# Altium footprint library PcbLib1.PcbLib: 11 footprints
Each footprint in its own frame and in the unit in brackets; x right, y up, seen from the top. Pads: shape width x height; smd on the part's side, far side on the other; paste and mask are expansions set on the pad; w line width, h text height; cw(c..) or ccw(c..) is an arc to the next point about the centre after c.
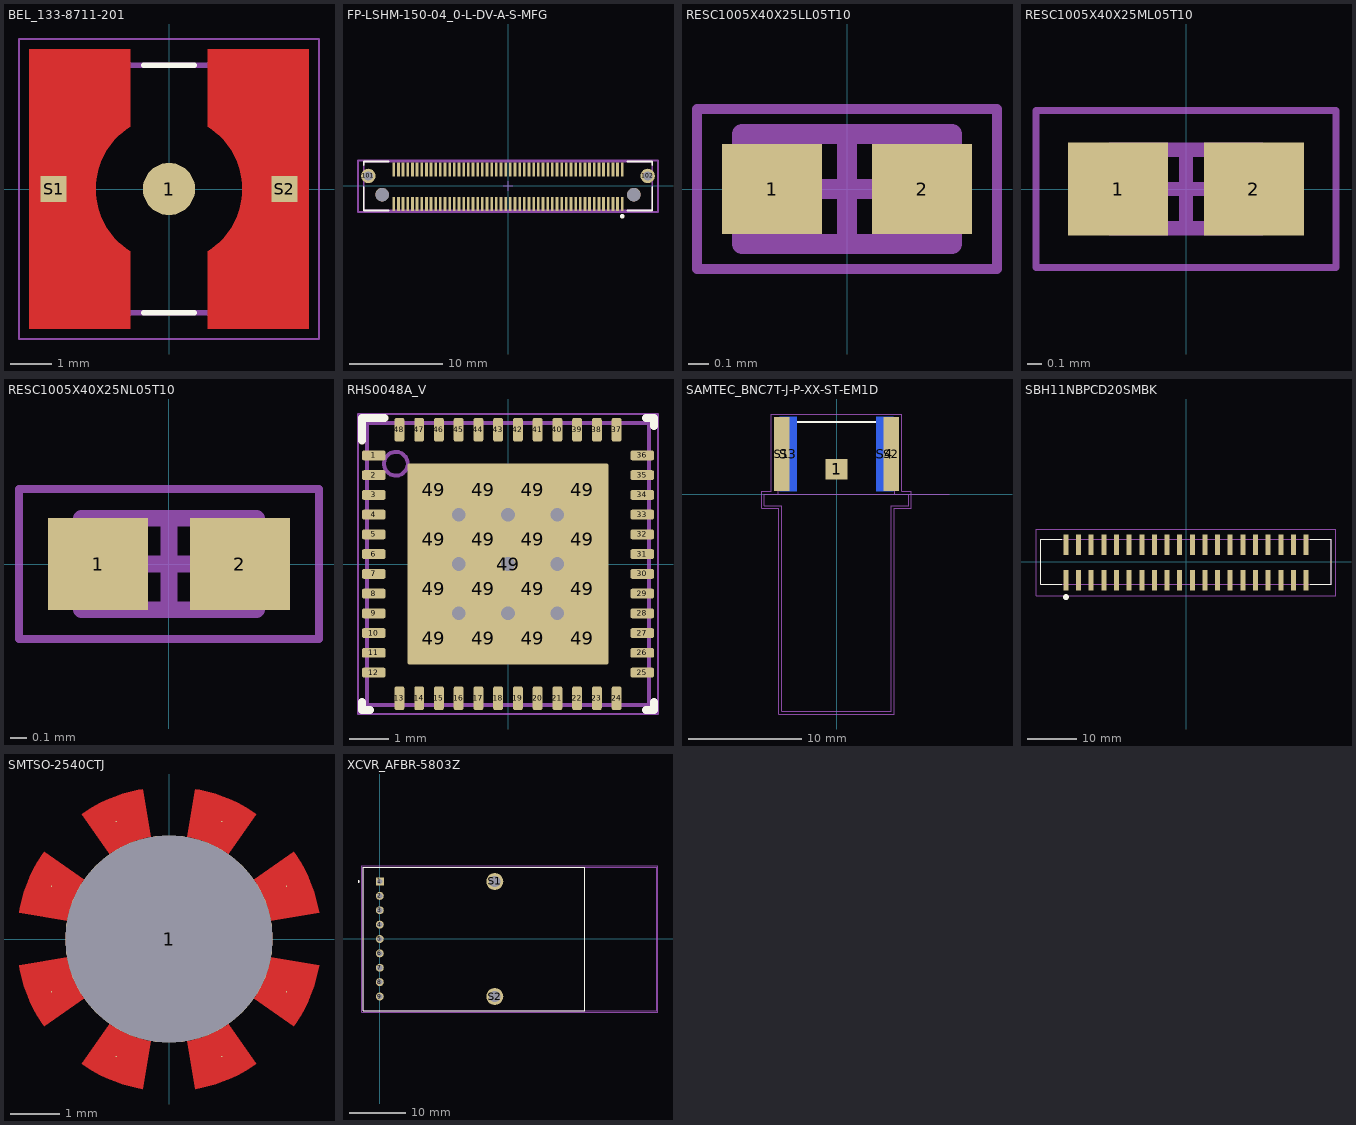
[diagram p0: the footprints below, top view; thin cyan lines are the x and y axes]

## BEL_133-8711-201 [mil]
pads (3):
  round 50 smd: 1(0,0)
  rect 25x25 smd paste-39.37 mask+0: S1(-110,0) S2(110,0)
Top Layer:
  region: -37,59.4 -41.06,56.68 -44.78,53.79 -48.31,50.65 -51.62,47.28 -54.69,43.7 -57.51,39.92 -60.07,35.95 -62.36,31.82 -64.36,27.55 -66.07,23.15 -67.48,18.65 -68.59,14.06 -69.38,9.41 -69.86,4.72 -70.02,0 -69.86,-4.72 -69.38,-9.41 -68.59,-14.06 -67.48,-18.65 -66.07,-23.15 -64.36,-27.55 -62.36,-31.82 -60.07,-35.95 -57.51,-39.92 -54.69,-43.7 -51.62,-47.28 -48.31,-50.65 -44.78,-53.79 -41.06,-56.68 -37,-59.4 -37,-133 -133,-133 -133,133 -37,133
  region: 133,-133 37,-133 37,-59.4 41.06,-56.68 44.78,-53.79 48.31,-50.65 51.62,-47.28 54.69,-43.7 57.51,-39.92 60.07,-35.95 62.36,-31.82 64.36,-27.55 66.07,-23.15 67.48,-18.65 68.59,-14.06 69.38,-9.41 69.86,-4.72 70.02,0 69.86,4.72 69.38,9.41 68.59,14.06 67.48,18.65 66.07,23.15 64.36,27.55 62.36,31.82 60.07,35.95 57.51,39.92 54.69,43.7 51.62,47.28 48.31,50.65 44.78,53.79 41.06,56.68 37,59.4 37,133 133,133
Top Overlay:
  lines w5: -24,-118 24,-118 ; -24,118 24,118
Top Paste:
  region: -59.5,59.5 -120.5,59.5 -120.5,120.5 -59.5,120.5
  region: 120.5,59.5 59.5,59.5 59.5,120.5 120.5,120.5
  region: 120.5,-120.5 59.5,-120.5 59.5,-59.5 120.5,-59.5
  region: -59.5,-120.5 -120.5,-120.5 -120.5,-59.5 -59.5,-59.5
Top Solder:
  region: -33,57.25 -36.99,54.76 -40.72,52.05 -44.25,49.09 -47.57,45.88 -50.65,42.46 -53.49,38.82 -56.07,35 -58.38,31.01 -60.4,26.87 -62.12,22.59 -63.55,18.21 -64.66,13.73 -65.47,9.19 -65.95,4.61 -66.11,0 -65.95,-4.61 -65.47,-9.19 -64.66,-13.73 -63.55,-18.21 -62.12,-22.59 -60.4,-26.87 -58.38,-31.01 -56.07,-35 -53.49,-38.82 -50.65,-42.46 -47.57,-45.88 -44.25,-49.09 -40.72,-52.05 -36.99,-54.76 -33,-57.25 -33.06,-136.94 -136.94,-136.94 -136.94,136.94 -33.06,136.94
  region: 136.94,-136.94 33.06,-136.94 33,-57.25 36.99,-54.76 40.72,-52.05 44.25,-49.09 47.57,-45.88 50.65,-42.46 53.49,-38.82 56.07,-35 58.38,-31.01 60.4,-26.87 62.12,-22.59 63.55,-18.21 64.66,-13.73 65.47,-9.19 65.95,-4.61 66.11,0 65.95,4.61 65.47,9.19 64.66,13.73 63.55,18.21 62.12,22.59 60.4,26.87 58.38,31.01 56.07,35 53.49,38.82 50.65,42.46 47.57,45.88 44.25,49.09 40.72,52.05 36.99,54.76 33,57.25 33.06,136.94 136.94,136.94
Mechanical 13:
  lines w5: -118,-118 118,-118 118,118 -118,118 -118,-118
Mechanical 15:
  lines w1.97: -143,-143 143,-143 143,143 -143,143 -143,-143
3D body "step_temp.STEP": height 244.09, standoff 0, extent -118.11,-118.11 118.11,118.11

## FP-LSHM-150-04_0-L-DV-A-S-MFG [mm]
pads (104):
  rect 0.3x1.5 smd paste+0 mask+0: 1(12.25,-1.925) 2(12.25,1.775) 3(11.75,-1.925) 4(11.75,1.775) 5(11.25,-1.925) 6(11.25,1.775) 7(10.75,-1.925) 8(10.75,1.775) 9(10.25,-1.925) 10(10.25,1.775) 11(9.75,-1.925) 12(9.75,1.775) 13(9.25,-1.925) 14(9.25,1.775) 15(8.75,-1.925) 16(8.75,1.775) 17(8.25,-1.925) 18(8.25,1.775) 19(7.75,-1.925) 20(7.75,1.775) 21(7.25,-1.925) 22(7.25,1.775) 23(6.75,-1.925) 24(6.75,1.775) 25(6.25,-1.925) 26(6.25,1.775) 27(5.75,-1.925) 28(5.75,1.775) 29(5.25,-1.925) 30(5.25,1.775) 31(4.75,-1.925) 32(4.75,1.775) 33(4.25,-1.925) 34(4.25,1.775) 35(3.75,-1.925) 36(3.75,1.775) 37(3.25,-1.925) 38(3.25,1.775) 39(2.75,-1.925) 40(2.75,1.775) 41(2.25,-1.925) 42(2.25,1.775) 43(1.75,-1.925) 44(1.75,1.775) 45(1.25,-1.925) 46(1.25,1.775) 47(0.75,-1.925) 48(0.75,1.775) 49(0.25,-1.925) 50(0.25,1.775) 51(-0.25,-1.925) 52(-0.25,1.775) 53(-0.75,-1.925) 54(-0.75,1.775) 55(-1.25,-1.925) 56(-1.25,1.775) 57(-1.75,-1.925) 58(-1.75,1.775) 59(-2.25,-1.925) 60(-2.25,1.775) 61(-2.75,-1.925) 62(-2.75,1.775) 63(-3.25,-1.925) 64(-3.25,1.775) 65(-3.75,-1.925) 66(-3.75,1.775) 67(-4.25,-1.925) 68(-4.25,1.775) 69(-4.75,-1.925) 70(-4.75,1.775) 71(-5.25,-1.925) 72(-5.25,1.775) 73(-5.75,-1.925) 74(-5.75,1.775) 75(-6.25,-1.925) 76(-6.25,1.775) 77(-6.75,-1.925) 78(-6.75,1.775) 79(-7.25,-1.925) 80(-7.25,1.775) 81(-7.75,-1.925) 82(-7.75,1.775) 83(-8.25,-1.925) 84(-8.25,1.775) 85(-8.75,-1.925) 86(-8.75,1.775) 87(-9.25,-1.925) 88(-9.25,1.775) 89(-9.75,-1.925) 90(-9.75,1.775) 91(-10.25,-1.925) 92(-10.25,1.775) 93(-10.75,-1.925) 94(-10.75,1.775) 95(-11.25,-1.925) 96(-11.25,1.775) 97(-11.75,-1.925) 98(-11.75,1.775) 99(-12.25,-1.925) 100(-12.25,1.775)
  round 1.55 hole 1 paste-2539.97 mask+0: 101(-14.975,1.075) 102(14.975,1.075)
  round 1.45 hole 1.45 unplated paste-2539.97 mask+0: ""(-13.5,-0.925) ""(13.5,-0.925)
Top Overlay:
  circle w0.25: c12.25,-3.25 r0.125
  lines w0.2: -15.465,-0.075 -15.465,-2.63 -12.775,-2.63 ; -15.465,2.225 -15.465,2.63 -12.775,2.63 ; 12.775,-2.63 15.465,-2.63 15.465,-0.075 ; 12.775,2.63 15.465,2.63 15.465,2.225
Top Paste:
  circle w1: c14.975,1.075 r0.5
  circle w1: c-14.975,1.075 r0.5
Top 3D Body:
  lines w0.2: -15.465,-2.63 15.465,-2.63 15.465,2.63 -15.465,2.63 -15.465,-2.63
Top Courtyard:
  lines w0.2: -16.075,-2.775 16.075,-2.775 16.075,2.73 -16.075,2.73 -16.075,-2.775
Top Assembly:
  lines w0.2: -16.075,-2.775 16.075,-2.775 16.075,2.73 -16.075,2.73 -16.075,-2.775
  text ".Designator" at 0.482,1.112 h1
Top Component Center:
  lines w0.1: -0.5,0 0.5,0 ; 0,-0.5 0,0.5
3D body "Conn_Samtec_LSHM-150-04_0-L-DV-A-S-K-TR_eec.STEP": height 0.25, standoff 0, extent -16.075,-2.775 16.075,2.73

## PCBComponent_1 [mm]

## RESC1005X40X25LL05T10 [mm] "Chip Resistor, 2-Leads, Body 1.00x0.50mm, IPC High Density"
height 0.4
pads (2):
  rect 0.5x0.45 smd: 1(-0.375,0) 2(0.375,0)
Top 3D Body:
  lines w0.1: -0.525,-0.275 -0.525,0.275 0.525,0.275 0.525,-0.275 -0.525,-0.275
Top Courtyard:
  lines w0.05: -0.75,-0.4 -0.75,0.4 0.75,0.4 0.75,-0.4 -0.75,-0.4
  lines w0.1: -0.275,0 0.275,0 ; 0,-0.275 0,0.275
3D body: height 0.4, standoff 0, extent -0.275,-0.275 0.275,0.275
3D body: height 0.4, standoff 0, extent -0.525,-0.275 -0.275,0.275
3D body: height 0.4, standoff 0, extent 0.275,-0.275 0.525,0.275

## RESC1005X40X25ML05T10 [mm] "Chip Resistor, 2-Leads, Body 1.00x0.50mm, IPC Low Density"
height 0.4
pads (2):
  rect 0.7x0.65 smd: 1(-0.475,0) 2(0.475,0)
Top 3D Body:
  lines w0.1: -0.525,-0.275 -0.525,0.275 0.525,0.275 0.525,-0.275 -0.525,-0.275
Top Courtyard:
  lines w0.05: -1.05,-0.55 -1.05,0.55 1.05,0.55 1.05,-0.55 -1.05,-0.55
  lines w0.1: -0.275,0 0.275,0 ; 0,-0.275 0,0.275
3D body: height 0.4, standoff 0, extent -0.275,-0.275 0.275,0.275
3D body: height 0.4, standoff 0, extent -0.525,-0.275 -0.275,0.275
3D body: height 0.4, standoff 0, extent 0.275,-0.275 0.525,0.275

## RESC1005X40X25NL05T10 [mm] "Chip Resistor, 2-Leads, Body 1.00x0.50mm, IPC Medium Density"
height 0.4
pads (2):
  rect 0.6x0.55 smd: 1(-0.425,0) 2(0.425,0)
Top 3D Body:
  lines w0.1: -0.525,-0.275 -0.525,0.275 0.525,0.275 0.525,-0.275 -0.525,-0.275
Top Courtyard:
  lines w0.05: -0.9,-0.45 -0.9,0.45 0.9,0.45 0.9,-0.45 -0.9,-0.45
  lines w0.1: -0.275,0 0.275,0 ; 0,-0.275 0,0.275
3D body: height 0.4, standoff 0, extent -0.275,-0.275 0.275,0.275
3D body: height 0.4, standoff 0, extent -0.525,-0.275 -0.275,0.275
3D body: height 0.4, standoff 0, extent 0.275,-0.275 0.525,0.275

## RHS0048A_V [mm] "QFN, 48-Leads, Body 7x7mm, Pitch 0.5mm, TI Recommended"
height 0.8
pads (65):
  rrect40% 0.6x0.25 smd: 1(-3.4,2.75) 2(-3.4,2.25) 3(-3.4,1.75) 4(-3.4,1.25) 5(-3.4,0.75) 6(-3.4,0.25) 7(-3.4,-0.25) 8(-3.4,-0.75) 9(-3.4,-1.25) 10(-3.4,-1.75) 11(-3.4,-2.25) 12(-3.4,-2.75) 25(3.4,-2.75) 26(3.4,-2.25) 27(3.4,-1.75) 28(3.4,-1.25) 29(3.4,-0.75) 30(3.4,-0.25) 31(3.4,0.25) 32(3.4,0.75) 33(3.4,1.25) 34(3.4,1.75) 35(3.4,2.25) 36(3.4,2.75)
  rrect40% 0.25x0.6 smd: 13(-2.75,-3.4) 14(-2.25,-3.4) 15(-1.75,-3.4) 16(-1.25,-3.4) 17(-0.75,-3.4) 18(-0.25,-3.4) 19(0.25,-3.4) 20(0.75,-3.4) 21(1.25,-3.4) 22(1.75,-3.4) 23(2.25,-3.4) 24(2.75,-3.4) 37(2.75,3.4) 38(2.25,3.4) 39(1.75,3.4) 40(1.25,3.4) 41(0.75,3.4) 42(0.25,3.4) 43(-0.25,3.4) 44(-0.75,3.4) 45(-1.25,3.4) 46(-1.75,3.4) 47(-2.25,3.4) 48(-2.75,3.4)
  rrect10% 1.05x1.05 on Top Paste: 49(-1.875,-1.875) 49(-1.875,-0.625) 49(-1.875,0.625) 49(-1.875,1.875) 49(-0.625,-1.875) 49(-0.625,-0.625) 49(-0.625,0.625) 49(-0.625,1.875) 49(0.625,-1.875) 49(0.625,-0.625) 49(0.625,0.625) 49(0.625,1.875) 49(1.875,-1.875) 49(1.875,-0.625) 49(1.875,0.625) 49(1.875,1.875)
  rrect2% 5.1x5.1 smd paste-2.55: 49(0,0)
via 0,0 diameter 0.7 hole 0.35
via 1.25,0 diameter 0.7 hole 0.35
via -1.25,0 diameter 0.7 hole 0.35
via -1.25,1.25 diameter 0.7 hole 0.35
via 1.25,1.25 diameter 0.7 hole 0.35
via 0,1.25 diameter 0.7 hole 0.35
via 0,-1.25 diameter 0.7 hole 0.35
via 1.25,-1.25 diameter 0.7 hole 0.35
via -1.25,-1.25 diameter 0.7 hole 0.35
Top Overlay:
  lines w0.2: -3.7,-3.5 -3.7,-3.7 -3.5,-3.7 ; -3.7,3.125 -3.7,3.7 -3.125,3.7 ; 3.5,-3.7 3.7,-3.7 3.7,-3.5 ; 3.5,3.7 3.7,3.7 3.7,3.5
Mechanical 1:
  text ".Designator" at -1.9,-0.5 h1.02
Top 3D Body:
  circle w0.1: c-2.84,2.54 r0.3
  lines w0.1: -3.575,-3.575 3.575,-3.575 3.575,3.575 -3.575,3.575 -3.575,-3.575
Top Courtyard:
  lines w0.05: -3.8,-3.8 3.8,-3.8 3.8,3.8 -3.8,3.8 -3.8,-3.8
  lines w0.1: -0.5,0 0.5,0 ; 0,-0.5 0,0.5
3D body: height 0.8, standoff 0, extent -3.574,-3.574 3.574,3.574
3D body: height 0.81, standoff 0.5, extent -3.139,2.241 -2.541,2.839

## SAMTEC_BNC7T-J-P-XX-ST-EM1D [mm]
pads (5):
  rect 1.98x1.83 smd: 1(0,2.185)
  rect 1.35x6.55 smd: S1(-4.825,3.525) S2(4.825,3.525)
  rect 1.5x6.55 smd far side: S3(-4.25,3.525) S4(4.25,3.525)
Top Overlay:
  lines w0.2: -3.8,6.35 3.8,6.35
Mechanical 13:
  lines w0.1: 9.95,0 6.35,0 ; -5.15,0 -5.15,6.35 5.15,6.35 5.15,0 ; -5.15,0 -6.35,0 -6.35,-1.02 -4.825,-1.02 -4.825,-19.13 4.825,-19.13 4.825,-1.02 6.35,-1.02 6.35,0 ; -5.15,0 5.15,0 ; 5.15,0 6.35,0
  text "PCB Edge" at 6.25,0.25 h1.27
Mechanical 15:
  lines w0.05: -6.6,-1.27 -6.6,0.25 -5.75,0.25 -5.75,7.05 5.75,7.05 5.75,0.25 6.6,0.25 6.6,-1.27 5.075,-1.27 5.075,-19.38 -5.075,-19.38 -5.075,-1.27 -6.6,-1.27
3D body "BNC7T-J-P-GN-ST-EM1D.stp": height 8.63, standoff -7.36, extent -7.994,-19.13 7.994,6.35

## SBH11NBPCD20SMBK [mm]
pads (40):
  rect 1x4.15 smd: 1(-24.13,-3.725) 2(-24.13,3.425) 3(-21.59,-3.725) 4(-21.59,3.425) 5(-19.05,-3.725) 6(-19.05,3.425) 7(-16.51,-3.725) 8(-16.51,3.425) 9(-13.97,-3.725) 10(-13.97,3.425) 11(-11.43,-3.725) 12(-11.43,3.425) 13(-8.89,-3.725) 14(-8.89,3.425) 15(-6.35,-3.725) 16(-6.35,3.425) 17(-3.81,-3.725) 18(-3.81,3.425) 19(-1.27,-3.725) 20(-1.27,3.425) 21(1.27,-3.725) 22(1.27,3.425) 23(3.81,-3.725) 24(3.81,3.425) 25(6.35,-3.725) 26(6.35,3.425) 27(8.89,-3.725) 28(8.89,3.425) 29(11.43,-3.725) 30(11.43,3.425) 31(13.97,-3.725) 32(13.97,3.425) 33(16.51,-3.725) 34(16.51,3.425) 35(19.05,-3.725) 36(19.05,3.425) 37(21.59,-3.725) 38(21.59,3.425) 39(24.13,-3.725) 40(24.13,3.425)
Top Overlay:
  circle w0.6: c-24.13,-7.112 r0.3
  lines w0.2: -25,-4.55 -29.15,-4.55 -29.15,4.55 -25,4.55 ; 25,-4.55 29.15,-4.55 29.15,4.55 25,4.55
Mechanical 13:
  lines w0.1: -29.15,-4.55 -29.15,4.55 29.15,4.55 29.15,-4.55 -29.15,-4.55
Mechanical 15:
  lines w0.1: -30.15,-6.8 -30.15,6.5 30.15,6.5 30.15,-6.8 -30.15,-6.8
3D body "HTST-120-01-L-DV.stp": height 10.16, standoff 0, extent -29.21,-5.588 29.21,5.588

## SMTSO-2540CTJ [mil] "M2.5 L:40mm BRASS SMT surface mount nut post"
height 1574.8
pads (9):
  round 1 smd: 1(-94.12,-42.21) 1(-94.12,42.21) 1(-42.21,-94.12) 1(-42.21,94.12) 1(42.21,-94.12) 1(42.21,94.12) 1(94.12,-42.21) 1(94.12,42.21)
  round 166.14 hole 166.14 paste+0 mask+4: 1(0,0)
Top Layer:
  region: -81.81,-14.43 -81.39,-16.65 -80.36,-21.06 -79.09,-25.41 -77.59,-29.69 -75.85,-33.87 -73.89,-37.96 -71.71,-41.93 -69.32,-45.77 -68.05,-47.65 -99.98,-70 -101.88,-67.28 -105.4,-61.62 -108.6,-55.78 -111.48,-49.78 -114.03,-43.63 -116.24,-37.35 -118.1,-30.96 -119.61,-24.47 -120.19,-21.19
  region: -68.05,47.65 -69.32,45.77 -71.71,41.93 -73.89,37.96 -75.85,33.87 -77.59,29.69 -79.09,25.41 -80.36,21.06 -81.39,16.65 -81.81,14.43 -120.19,21.19 -119.61,24.47 -118.1,30.96 -116.24,37.35 -114.03,43.63 -111.48,49.78 -108.6,55.78 -105.4,61.62 -101.88,67.28 -99.98,70
  region: -14.43,81.81 -16.65,81.39 -21.06,80.36 -25.41,79.09 -29.69,77.59 -33.87,75.85 -37.96,73.89 -41.93,71.71 -45.77,69.32 -47.65,68.05 -70,99.98 -67.28,101.88 -61.62,105.4 -55.78,108.6 -49.78,111.48 -43.63,114.03 -37.35,116.24 -30.96,118.1 -24.47,119.61 -21.19,120.19
  region: 47.65,68.05 45.77,69.32 41.93,71.71 37.96,73.89 33.87,75.85 29.69,77.59 25.41,79.09 21.06,80.36 16.65,81.39 14.43,81.81 21.19,120.19 24.47,119.61 30.96,118.1 37.35,116.24 43.63,114.03 49.78,111.48 55.78,108.6 61.62,105.4 67.28,101.88 70,99.98
  region: 81.81,14.43 81.39,16.65 80.36,21.06 79.09,25.41 77.59,29.69 75.85,33.87 73.89,37.96 71.71,41.93 69.32,45.77 68.05,47.65 99.98,70 101.88,67.28 105.4,61.62 108.6,55.78 111.48,49.78 114.03,43.63 116.24,37.35 118.1,30.96 119.61,24.47 120.19,21.19
  region: 68.05,-47.65 69.32,-45.77 71.71,-41.93 73.89,-37.96 75.85,-33.87 77.59,-29.69 79.09,-25.41 80.36,-21.06 81.39,-16.65 81.81,-14.43 120.19,-21.19 119.61,-24.47 118.1,-30.96 116.24,-37.35 114.03,-43.63 111.48,-49.78 108.6,-55.78 105.4,-61.62 101.88,-67.28 99.98,-70
  region: 14.43,-81.81 16.65,-81.39 21.06,-80.36 25.41,-79.09 29.69,-77.59 33.87,-75.85 37.96,-73.89 41.93,-71.71 45.77,-69.32 47.65,-68.05 70,-99.98 67.28,-101.88 61.62,-105.4 55.78,-108.6 49.78,-111.48 43.63,-114.03 37.35,-116.24 30.96,-118.1 24.47,-119.61 21.19,-120.19
  region: -47.65,-68.05 -45.77,-69.32 -41.93,-71.71 -37.96,-73.89 -33.87,-75.85 -29.69,-77.59 -25.41,-79.09 -21.06,-80.36 -16.65,-81.39 -14.43,-81.81 -21.19,-120.19 -24.47,-119.61 -30.96,-118.1 -37.35,-116.24 -43.63,-114.03 -49.78,-111.48 -55.78,-108.6 -61.62,-105.4 -67.28,-101.88 -70,-99.98
3D body "M2.5x0.45 L4.stp": height 157.48, standoff -60.24, extent -109.45,-108.98 109.45,108.98

## XCVR_AFBR-5803Z [mm]
pads (11):
  rect 1.408x1.408 hole 0.9: 1(0,10.16)
  round 1.408 hole 0.9: 2(0,7.62) 3(0,5.08) 4(0,2.54) 5(0,0) 6(0,-2.54) 7(0,-5.08) 8(0,-7.62) 9(0,-10.16)
  round 3 hole 2: S1(20.32,10.16) S2(20.32,-10.16)
Top Overlay:
  circle w0.2: c-3.75,10.16 r0.1
  lines w0.127: -2.92,-12.7 36.2,-12.7 36.2,12.7 -2.92,12.7 -2.92,-12.7
Mechanical 13:
  circle w0.2: c-3.75,10.16 r0.1
  lines w0.127: 36.2,-12.7 48.9,-12.7 48.9,12.7 36.2,12.7 ; 36.2,-12.7 36.2,12.7 ; 36.2,-12.7 -2.92,-12.7 -2.92,12.7 36.2,12.7
Mechanical 15:
  lines w0.05: -3.17,-12.95 -3.17,12.95 49.15,12.95 49.15,-12.95 -3.17,-12.95
3D body "AFBR-5803Z.STEP": height 11.18, standoff -3.7, extent -2.921,-12.7 36.199,12.7